# EAGLE library part 23K256 (library SPI_RAM_23K256)
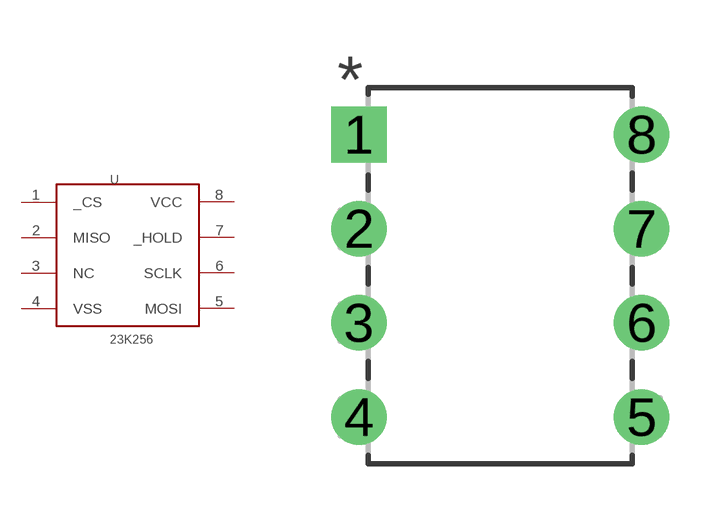
[diagram p0: symbol with the pads of DIP8-23K256; footprint DIP8-23K256]

Designator prefix -

## 23K256DIP8  [DIP8-23K256]
1  _CS
2  MISO
3  NC
4  VSS
5  MOSI
6  SCLK
7  _HOLD
8  VCC

## Footprint DIP8-23K256 (pad centres in mm)
drill 0.991 square: 1 -3.81,3.81
drill 0.991: 2 -3.81,1.27; 3 -3.81,-1.27; 4 -3.81,-3.81; 5 3.81,-3.81; 6 3.81,-1.27; 7 3.81,1.27; 8 3.81,3.81